# EAGLE library part SAMTEC-HTST-105-01-X-DV (library con-custom)
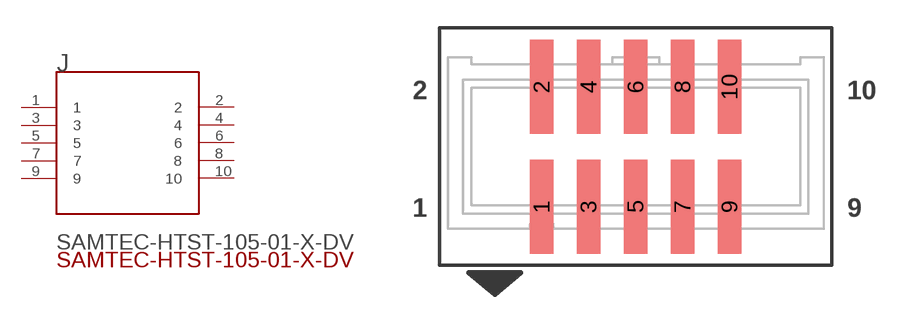
[diagram p5: symbol with the pads of SAMTEC-HTST-105-01-X-DV; footprint SAMTEC-HTST-105-01-X-DV]

Designator prefix J

## SAMTEC-HTST-105-01-X-DVJ  [SAMTEC-HTST-105-01-X-DV]
1  1  pas
2  2  pas
3  3  pas
4  4  pas
5  5  pas
6  6  pas
7  7  pas
8  8  pas
9  9  pas
10  10  pas

## Footprint SAMTEC-HTST-105-01-X-DV (pad centres in mm)
smd 1.27 x 5.08: 1 -5.08,-3.238; 2 -5.08,3.238; 3 -2.54,-3.238; 4 -2.54,3.238; 5 0,-3.238; 6 0,3.238; 7 2.54,-3.238; 8 2.54,3.238; 9 5.08,-3.238; 10 5.08,3.238